# Altium footprint library 15_to_28_Pin.PcbLib: 36 footprints (part 3 of 3)
Each footprint in its own frame and in the unit in brackets; x right, y up, seen from the top. Pads: shape width x height; smd on the part's side, far side on the other; paste and mask are expansions set on the pad; w line width, h text height; cw(c..) or ccw(c..) is an arc to the next point about the centre after c.
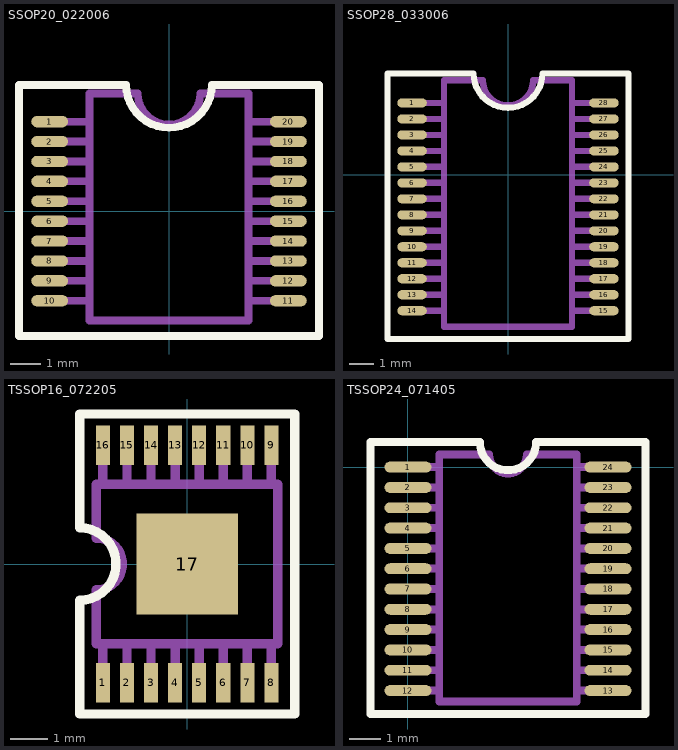
[diagram p2: the footprints below, top view; thin cyan lines are the x and y axes]

## SSOP20_022006 [mm] "SMT"
height 2
pads (20):
  oval 1.2x0.37 smd mask+0.038: 1(-3.9,2.925) 2(-3.9,2.275) 3(-3.9,1.625) 4(-3.9,0.975) 5(-3.9,0.325) 6(-3.9,-0.325) 7(-3.9,-0.975) 8(-3.9,-1.625) 9(-3.9,-2.275) 10(-3.9,-2.925) 11(3.9,-2.925) 12(3.9,-2.275) 13(3.9,-1.625) 14(3.9,-0.975) 15(3.9,-0.325) 16(3.9,0.325) 17(3.9,0.975) 18(3.9,1.625) 19(3.9,2.275) 20(3.9,2.925)
Top Overlay:
  lines w0.254: -4.9,-4.075 4.9,-4.075 4.9,4.125 1.4,4.125 cw(c0,4.125) -1.4,4.125 -4.9,4.125 -4.9,-4.075
Assembly Outline:
  lines w0.254: -3.9,-2.925 -2.6,-2.925 ; -3.9,-2.275 -2.6,-2.275 ; -3.9,-1.625 -2.6,-1.625 ; -3.9,-0.975 -2.6,-0.975 ; -3.9,-0.325 -2.6,-0.325 ; -3.9,0.325 -2.6,0.325 ; -3.9,0.975 -2.6,0.975 ; -3.9,1.625 -2.6,1.625 ; -3.9,2.275 -2.6,2.275 ; -3.9,2.925 -2.6,2.925 ; -2.6,-1.305 -2.6,3.845 ; 2.6,-2.925 3.9,-2.925 ; 2.6,-1.625 3.9,-1.625 ; 2.6,-0.975 3.9,-0.975 ; 2.6,-0.325 3.9,-0.325 ; 2.6,0.325 3.9,0.325 ; 2.6,0.975 3.9,0.975 ; 2.6,1.625 3.9,1.625 ; 2.6,2.275 3.9,2.275 ; 2.6,2.925 3.9,2.925 ; 3.9,-2.275 2.6,-2.275 ; -2.6,-2.275 -2.6,-3.575 2.6,-3.575 2.6,-2.275 ; -2.6,-2.275 -2.6,3.845 ; -2.6,3.845 -1.02,3.845 ccw(c0,3.845) 1.02,3.845 2.6,3.845 2.6,-2.275
Assembly Designator:
  text ".Designator" at -1.1,-0.475 h1.02
Assembly Comment:
  text ".Comment" at -4.55,-5.375 h1.02

## SSOP28_033006 [mm] "SMT"
height 2
pads (28):
  oval 1.2x0.37 smd mask+0.038: 1(-3.9,2.925) 2(-3.9,2.275) 3(-3.9,1.625) 4(-3.9,0.975) 5(-3.9,0.325) 6(-3.9,-0.325) 7(-3.9,-0.975) 8(-3.9,-1.625) 9(-3.9,-2.275) 10(-3.9,-2.925) 11(-3.9,-3.575) 12(-3.9,-4.225) 13(-3.9,-4.875) 14(-3.9,-5.525) 15(3.9,-5.525) 16(3.9,-4.875) 17(3.9,-4.225) 18(3.9,-3.575) 19(3.9,-2.925) 20(3.9,-2.275) 21(3.9,-1.625) 22(3.9,-0.975) 23(3.9,-0.325) 24(3.9,0.325) 25(3.9,0.975) 26(3.9,1.625) 27(3.9,2.275) 28(3.9,2.925)
Top Overlay:
  lines w0.254: -4.9,-6.675 4.9,-6.675 4.9,-4.075 4.9,4.125 1.4,4.125 cw(c0,4.125) -1.4,4.125 -4.9,4.125 -4.9,-4.075 -4.9,-6.675
Assembly Outline:
  lines w0.254: -3.9,-5.525 -2.6,-5.525 ; -3.9,-4.875 -2.6,-4.875 ; -3.9,-4.225 -2.6,-4.225 ; -3.9,-3.575 -2.6,-3.575 ; -3.9,-2.275 -2.6,-2.275 ; -3.9,-1.625 -2.6,-1.625 ; -3.9,-0.975 -2.6,-0.975 ; -3.9,-0.325 -2.6,-0.325 ; -3.9,0.325 -2.6,0.325 ; -3.9,0.975 -2.6,0.975 ; -3.9,1.625 -2.6,1.625 ; -3.9,2.275 -2.6,2.275 ; -3.9,2.925 -2.6,2.925 ; -2.6,-1.305 -2.6,3.845 ; 2.6,-5.525 3.9,-5.525 ; 2.6,-4.225 3.9,-4.225 ; 2.6,-1.625 3.9,-1.625 ; 2.6,-0.975 3.9,-0.975 ; 2.6,-0.325 3.9,-0.325 ; 2.6,0.325 3.9,0.325 ; 2.6,0.975 3.9,0.975 ; 2.6,1.625 3.9,1.625 ; 2.6,2.275 3.9,2.275 ; 2.6,2.925 3.9,2.925 ; 3.9,-4.875 2.6,-4.875 ; 3.9,-3.575 2.6,-3.575 ; 3.9,-2.275 2.6,-2.275 ; -2.6,-4.875 -2.6,-6.175 2.6,-6.175 2.6,-4.875 ; -2.6,-4.875 -2.6,-3.575 ; -2.6,-3.575 -2.6,-2.275 ; -2.6,-2.275 -2.6,3.845 ; -2.6,3.845 -1.02,3.845 ccw(c0,3.845) 1.02,3.845 2.6,3.845 2.6,-2.275 ; 2.6,-4.875 2.6,-3.575 ; 2.6,-3.575 2.6,-2.275 ; -3.9,-2.925 -2.6,-2.925 -3.9,-2.925 ; 2.6,-2.925 3.9,-2.925 2.6,-2.925
Assembly Designator:
  text ".Designator" at -0.762,-1.651 h1.02
Assembly Comment:
  text ".Comment" at -4.191,-8.128 h1.02

## TSSOP16_072205 [mm] "SMT"
height 1.1
pads (17):
  rect 0.381x1.067 smd mask+0.025: 1(-2.275,-3.2) 2(-1.625,-3.2) 3(-0.975,-3.2) 4(-0.325,-3.2) 5(0.325,-3.2) 6(0.975,-3.2) 7(1.625,-3.2) 8(2.275,-3.2) 9(2.275,3.2) 10(1.625,3.2) 11(0.975,3.2) 12(0.325,3.2) 13(-0.325,3.2) 14(-0.975,3.2) 15(-1.625,3.2) 16(-2.275,3.2)
  rect 2.74x2.74 smd mask+0.025: 17(0,0)
Top Overlay:
  lines w0.254: -2.9,-4.05 -2.9,-0.98 ccw(c-2.9,0) -2.9,0.98 -2.9,4.05 0,4.05 2.9,4.05 2.9,0 2.9,-4.05 0,-4.05 -2.9,-4.05
Assembly Outline:
  lines w0.254: -2.275,-3.2 -2.275,-2.15 ; -2.275,2.15 -2.275,3.2 ; -1.625,-3.2 -1.625,-2.15 ; -1.625,2.15 -1.625,3.2 ; -0.975,-3.2 -0.975,-2.15 ; -0.975,2.15 -0.975,3.2 ; -0.325,-3.2 -0.325,-2.15 ; -0.325,2.15 -0.325,3.2 ; 0.325,-3.2 0.325,-2.15 ; 0.325,2.15 0.325,3.2 ; 0.975,-3.2 0.975,-2.15 ; 0.975,2.15 0.975,3.2 ; 1.625,-3.2 1.625,-2.15 ; 1.625,2.15 1.625,3.2 ; 2.275,-3.2 2.275,-2.15 ; 2.275,2.15 2.275,3.2 ; -2.45,-2.15 -2.45,-0.7 ccw(c-2.45,0) -2.45,0.7 -2.45,2.15 0,2.15 2.45,2.15 2.45,0 2.45,-2.15 0,-2.15 -2.45,-2.15
Assembly Designator:
  text ".Designator" at -0.625,-0.4 h1.02
Assembly Comment:
  text ".Comment" at -2.65,-5.3 h1.02

## TSSOP24_071405 [mm] "SM FP"
height 1
pads (24):
  oval 1.5x0.35 smd mask+0.038: 1(0,0) 2(0,-0.65) 3(0,-1.3) 4(0,-1.95) 5(0,-2.6) 6(0,-3.25) 7(0,-3.9) 8(0,-4.55) 9(0,-5.2) 10(0,-5.85) 11(0,-6.5) 12(0,-7.15) 13(6.4,-7.15) 14(6.4,-6.5) 15(6.4,-5.85) 16(6.4,-5.2) 17(6.4,-4.55) 18(6.4,-3.9) 19(6.4,-3.25) 20(6.4,-2.6) 21(6.4,-1.95) 22(6.4,-1.3) 23(6.4,-0.65) 24(6.4,0)
Top Overlay:
  lines w0.254: -1.2,-7.9 -1.2,0.8 2.3,0.8 ccw(c3.2,0.8) 4.1,0.8 7.6,0.8 7.6,-7.9 -1.2,-7.9
Assembly Outline:
  lines w0.254: 0,-7.15 1,-7.15 ; 0,-6.5 1,-6.5 ; 0,-5.85 1,-5.85 ; 0,-5.2 1,-5.2 ; 0,-4.55 1,-4.55 ; 0,-3.9 1,-3.9 ; 0,-3.25 1,-3.25 ; 0,-2.6 1,-2.6 ; 0,-1.95 1,-1.95 ; 0,-1.3 1,-1.3 ; 0,-0.65 1,-0.65 ; 0,0 1,0 ; 5.4,-7.15 6.4,-7.15 ; 5.4,-6.5 6.4,-6.5 ; 5.4,-5.85 6.4,-5.85 ; 5.4,-5.2 6.4,-5.2 ; 5.4,-4.55 6.4,-4.55 ; 5.4,-3.9 6.4,-3.9 ; 5.4,-3.25 6.4,-3.25 ; 5.4,-2.6 6.4,-2.6 ; 5.4,-1.95 6.4,-1.95 ; 5.4,-1.3 6.4,-1.3 ; 5.4,-0.65 6.4,-0.65 ; 5.4,0 6.4,0 ; 1,-7.5 1,0.4 2.6,0.4 ccw(c3.2,0.4) 3.8,0.4 5.4,0.4 5.4,-7.5 1,-7.5
Assembly Designator:
  text ".Designator" at 2.3,-4.2 h1.02
Assembly Comment:
  text ".Comment" at -0.3,-8.8 h1.02